# EAGLE library part OPAMP/QUAD (library audioint)
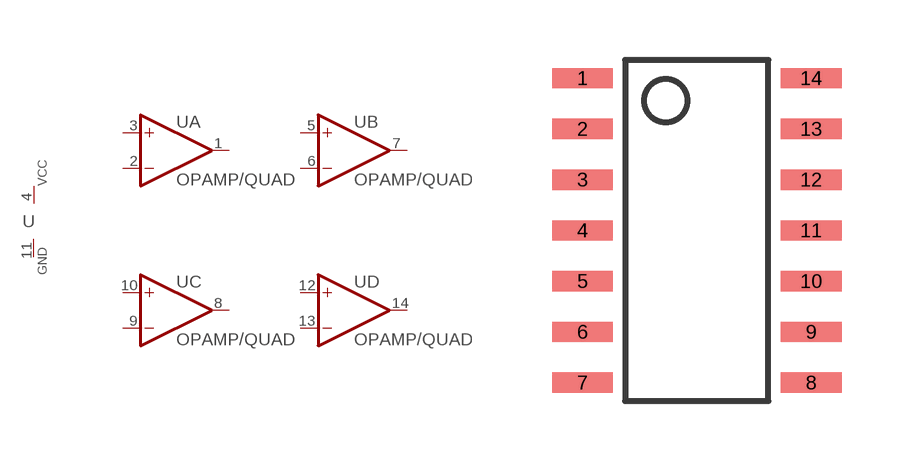
[diagram p33: symbol with the pads of 14-SOIC; footprint 14-SOIC]

Designator prefix U; gates A=OP-AMP B=OP-AMP C=OP-AMP D=OP-AMP G$5=PWR-GND

## OPAMP/QUADSOIC  [14-SOIC]
1  A:OUT  out
2  A:-IN  in
3  A:+IN  in
4  G$5:VCC  pwr
5  B:+IN  in
6  B:-IN  in
7  B:OUT  out
8  C:OUT  out
9  C:-IN  in
10  C:+IN  in
11  G$5:GND  pwr
12  D:+IN  in
13  D:-IN  in
14  D:OUT  out

## Footprint 14-SOIC (pad centres in mm)
smd 1.524 x 0.508: 1 -2.857,3.81; 2 -2.857,2.54; 3 -2.857,1.27; 4 -2.857,0; 5 -2.857,-1.27; 6 -2.857,-2.54; 7 -2.857,-3.81; 8 2.857,-3.81; 9 2.857,-2.54; 10 2.857,-1.27; 11 2.857,0; 12 2.857,1.27; 13 2.857,2.54; 14 2.857,3.81